# Altium footprint library 691328310012.PcbLib: 1 footprints
Each footprint in its own frame and in the unit in brackets; x right, y up, seen from the top. Pads: shape width x height; smd on the part's side, far side on the other; paste and mask are expansions set on the pad; w line width, h text height; cw(c..) or ccw(c..) is an arc to the next point about the centre after c.
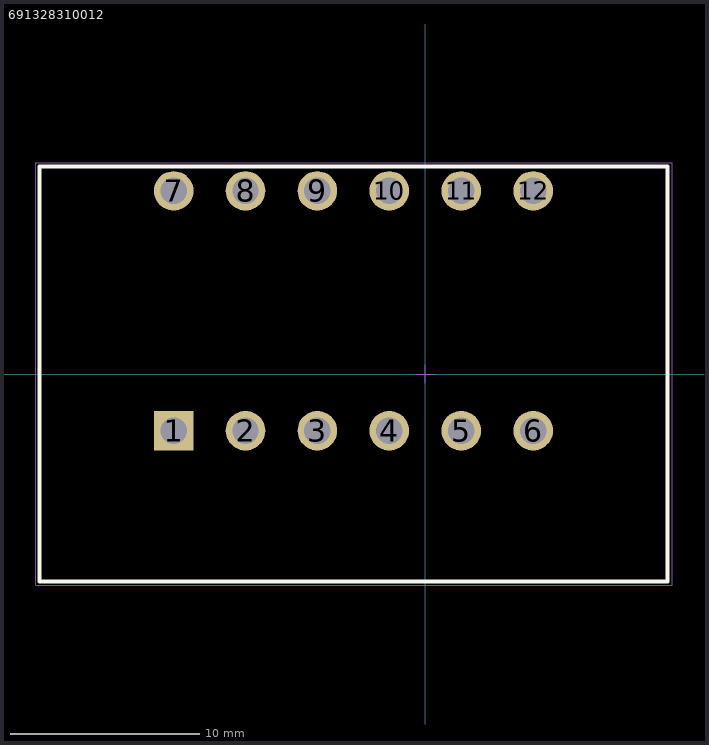
[diagram p0: the footprint, top view; thin cyan lines are the x and y axes]

## 691328310012 [mm] "Double Level Horizontal Male PCB Header with Flanges & Nut Type, pitch 3.81mm, 16p"
height 22.7
pads (12):
  rect 2.1x2.1 hole 1.4: 1(-13.335,-3)
  round 2.1 hole 1.4: 2(-9.525,-3) 3(-5.715,-3) 4(-1.905,-3) 5(1.905,-3) 6(5.715,-3) 7(-13.335,9.7) 8(-9.525,9.7) 9(-5.715,9.7) 10(-1.905,9.7) 11(1.905,9.7) 12(5.715,9.7)
Top Overlay:
  lines w0.2: -20.435,-11 12.827,-11 12.827,11 -20.435,11 -20.435,-11
Top Assembly:
  lines w0.05: -0.5,0 0.5,0 ; 0,-0.5 0,0.5
  lines w0.1: -20.435,-11 12.827,-11 12.827,11 -20.435,11 -20.435,-11
Top Courtyard:
  lines w0.05: -20.635,-11.2 13.081,-11.2 13.081,11.2 -20.635,11.2 -20.635,-11.2
3D body "691328310012_Download_STP_691328310012_rev1.stp": height 22.7, standoff -3.5, extent -20.435,-11.049 12.815,10.951